# Altium integrated library Xilinx Virtex-4.IntLib: 84 symbols (part 24 of 50)
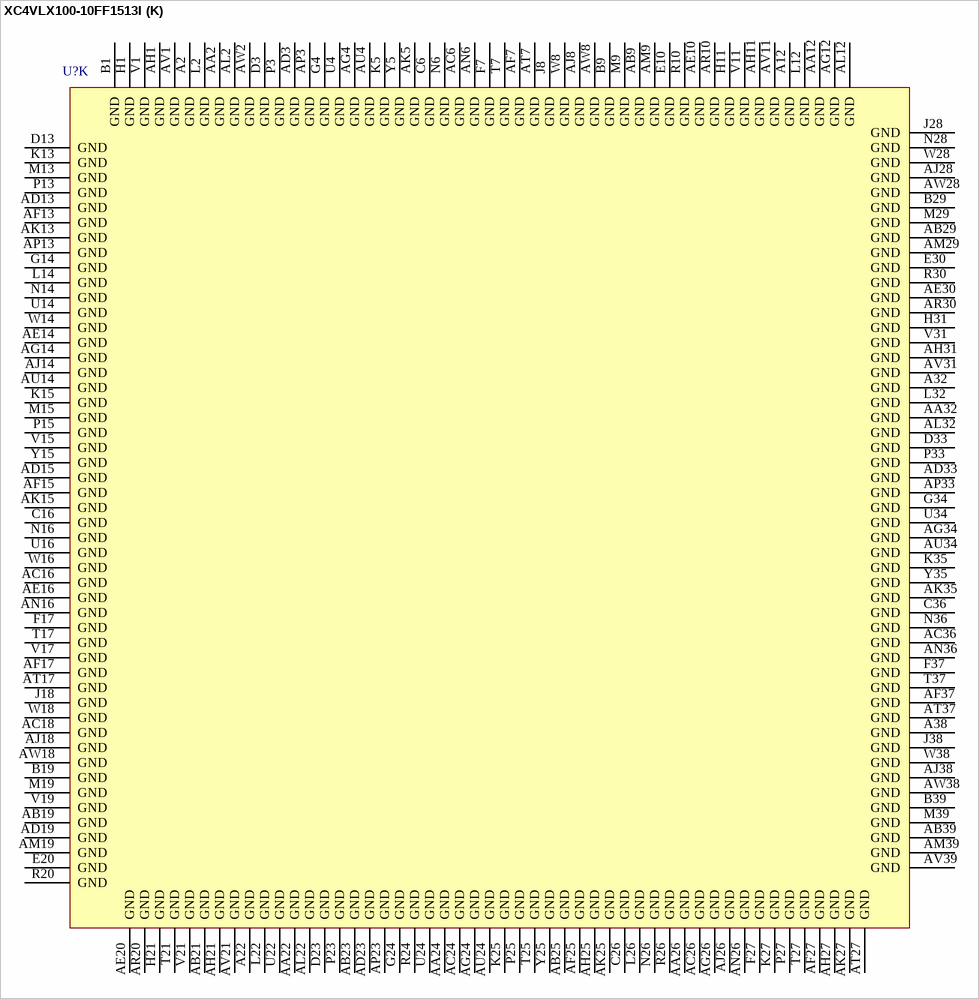
[diagram p422: symbol XC4VLX100-10FF1513I]

## XC4VLX100-10FF1513I
designator U?
Xilinx Virtex-4 LX Platform FPGA, 1513-Ball FFBGA, Speed Grade 10, 960 User I/Os, Industrial Grade; PackageDocument: ver1.0, Sep-2004; Published: 13-Dec-2004; DatasheetDocument: ver1.2, Dec-2004; PackageReference: FF1513; Publisher: Altium Limited; Code_JEDEC: MS-034-AAU-1 (Depopulated)
footprint FF1513 (1513-Ball Flip-Chip Fine-Pitch Ball Grid Array (FF1513))
3D model XC4VLX100-FF1513 (1513-Ball Flip-Chip Fine-Pitch Ball Grid Array (FF1513))
signal-integrity model XC4VLX100_FF1513 (Virtex-4)
part A pins: A16 IO_L8P_D17_CC_LC_1 (io), A17 VCCO_1 (power), A18 IO_L26P_LC_1 (io), A23 IO_L29N_LC_1 (io), A24 IO_L29P_LC_1 (io), A25 IO_L39N_LC_1 (io), AC20 IO_L35N_LC_2 (io), AC21 VCCO_2 (power), AC22 IO_L35P_LC_2 (io), AD17 IO_L20N_VREF_LC_2 (io), AD18 VCCO_2 (power), AD21 IO_L19N_LC_2 (io), AE18 IO_L20P_LC_2 (io), AE22 IO_L19P_LC_2 (io), AE23 IO_L33P_LC_2 (io), AF21 IO_L17N_LC_2 (io), AF22 VCCO_2 (power), AF23 IO_L33N_LC_2 (io), AG16 IO_L8N_D0_LC_2 (io), AG17 IO_L18N_LC_2 (io), AG22 IO_L17P_LC_2 (io), AG23 IO_L29P_LC_2 (io), AH15 IO_L8P_D1_LC_2 (io), AH16 VCCO_2 (power), AH17 IO_L18P_LC_2 (io), AH22 IO_L31P_LC_2 (io), AH23 IO_L29N_LC_2 (io), AJ16 IO_L40N_CC_LC_2 (io), AJ22 IO_L31N_LC_2 (io), AJ23 VCCO_2 (power), AJ24 IO_L7P_D3_LC_2 (io), AK16 IO_L40P_CC_LC_2 (io), AK17 IO_L32P_LC_2 (io), AK23 IO_L27P_LC_2 (io), AK24 IO_L7N_D2_LC_2 (io), AL16 IO_L32N_LC_2 (io), AL17 VCCO_2 (power), AL18 IO_L10N_GC_LC_2 (io), AL23 IO_L27N_LC_2 (io), AL24 IO_L5P_D7_LC_2 (io), AM17 IO_L30N_LC_2 (io), AM18 IO_L10P_GC_LC_2 (io), AM20 IO_L15N_GC_LC_2 (io), AM21 IO_L15P_GC_LC_2 (io), AM23 IO_L25P_CC_LC_2 (io), AM24 VCCO_2 (power), AM25 IO_L5N_D6_LC_2 (io), AN17 IO_L30P_LC_2 (io), AN18 IO_L24P_CC_LC_2 (io), AN20 IO_L13N_GC_LC_2 (io), AN21 VCCO_2 (power), AN22 IO_L25N_CC_LC_2 (io), AN24 IO_L1N_D14_CC_LC_2 (io), AN25 IO_L1P_D15_CC_LC_2 (io), AP14 IO_L6N_D4_LC_2 (io), AP15 IO_L6P_D5_LC_2 (io), AP16 IO_L38N_LC_2 (io), AP17 IO_L24N_CC_LC_2 (io), AP18 VCCO_2 (power), AP19 IO_L14P_GC_LC_2 (io), AP21 IO_L13P_GC_LC_2 (io), AP22 IO_L9P_GC_CC_LC_2 (io), AR14 IO_L2N_D12_LC_2 (io), AR15 VCCO_2 (power), AR16 IO_L38P_LC_2 (io), AR18 IO_L14N_GC_LC_2 (io), AR19 IO_L12N_GC_VREF_LC_2 (io), AR21 IO_L11N_GC_LC_2 (io), AR22 IO_L9N_GC_CC_LC_2 (io), AR23 IO_L39P_LC_2 (io), AT14 IO_L2P_D13_LC_2 (io), AT15 IO_L36N_VREF_LC_2 (io), AT16 IO_L36P_LC_2 (io), AT18 IO_L22N_LC_2 (io), AT19 IO_L12P_GC_LC_2 (io), AT20 IO_L16N_GC_LC_2 (io), AT21 IO_L11P_GC_LC_2 (io), AT22 VCCO_2 (power), AT23 IO_L39N_LC_2 (io), AU15 IO_L4N_D8_VREF_LC_2 (io), AU16 IO_L28N_VREF_LC_2 (io), AU17 IO_L28P_LC_2 (io), AU18 IO_L22P_LC_2 (io), AU19 VCCO_2 (power), AU20 IO_L16P_GC_LC_2 (io), AU21 IO_L23N_VRP_LC_2 (io), AU22 IO_L23P_VRN_LC_2 (io), AU23 IO_L37P_LC_2 (io), AV15 IO_L4P_D9_LC_2 (io), AV16 VCCO_2 (power), AV17 IO_L26N_LC_2 (io), AV22 IO_L21P_LC_2 (io), AV23 IO_L37N_LC_2 (io), AV24 IO_L3P_D11_LC_2 (io), AW15 IO_L34N_LC_2 (io), AW16 IO_L34P_LC_2 (io), AW17 IO_L26P_LC_2 (io), AW22 IO_L21N_LC_2 (io), AW23 VCCO_2 (power), AW24 IO_L3N_D10_LC_2 (io), B16 IO_L8N_D16_CC_LC_1 (io), B17 IO_L40P_LC_1 (io), B18 IO_L26N_LC_1 (io), B23 IO_L23N_LC_1 (io), B24 VCCO_1 (power), B25 IO_L39P_LC_1 (io), C17 IO_L40N_LC_1 (io), C18 IO_L12N_GC_VREF_LC_1 (io), C19 IO_L12P_GC_LC_1 (io), C20 IO_L9P_GC_LC_1 (io), C21 VCCO_1 (power), C22 IO_L13N_GC_LC_1 (io), C23 IO_L23P_LC_1 (io), C24 IO_L27N_LC_1 (io), C25 IO_L37N_LC_1 (io), D17 IO_L38P_LC_1 (io), D18 VCCO_1 (power), D19 IO_L10P_GC_LC_1 (io), D20 IO_L9N_GC_LC_1 (io), D21 IO_L11N_GC_LC_1 (io), D22 IO_L13P_GC_LC_1 (io), D24 IO_L27P_LC_1 (io), D25 IO_L37P_LC_1 (io), D26 IO_L3N_D26_LC_1 (io), E17 IO_L38N_LC_1 (io), E18 IO_L24P_LC_1 (io), E19 IO_L10N_GC_LC_1 (io), E21 IO_L11P_GC_LC_1 (io), E22 IO_L21N_LC_1 (io), E24 IO_L25N_LC_1 (io), E25 VCCO_1 (power), E26 IO_L3P_D27_LC_1 (io), F18 IO_L24N_LC_1 (io), F19 IO_L14N_GC_LC_1 (io), F21 IO_L17N_CC_LC_1 (io), F22 VCCO_1 (power), F23 IO_L21P_LC_1 (io), F24 IO_L25P_LC_1 (io), F25 IO_L1N_D30_LC_1 (io), F26 IO_L1P_D31_LC_1 (io), G15 IO_L6N_D20_LC_1 (io), G16 IO_L6P_D21_LC_1 (io), G18 IO_L22P_LC_1 (io), G19 VCCO_1 (power), G20 IO_L14P_GC_LC_1 (io), G22 IO_L17P_CC_LC_1 (io), G23 IO_L19N_LC_1 (io), H15 IO_L4N_D24_VREF_LC_1 (io), H16 VCCO_1 (power), H17 IO_L22N_LC_1 (io), H22 IO_L15N_GC_LC_1 (io), H23 IO_L19P_LC_1 (io), J16 IO_L4P_D25_LC_1 (io), J17 IO_L36P_LC_1 (io), J22 IO_L15P_GC_LC_1 (io), J23 VCCO_1 (power), J24 IO_L35N_LC_1 (io), K16 IO_L2P_D29_LC_1 (io), K17 IO_L36N_VREF_LC_1 (io), K23 IO_L33N_CC_LC_1 (io), K24 IO_L35P_LC_1 (io), L16 IO_L2N_D28_LC_1 (io), L17 VCCO_1 (power), L18 IO_L20P_LC_1 (io), L24 IO_L33P_CC_LC_1 (io), M17 IO_L34P_LC_1 (io), M18 IO_L20N_VREF_LC_1 (io), M23 IO_L31N_LC_1 (io), M24 VCCO_1 (power), M25 IO_L5P_D23_LC_1 (io), N17 IO_L34N_LC_1 (io), N18 IO_L18N_VRP_LC_1 (io), N23 IO_L31P_LC_1 (io), N24 IO_L5N_D22_LC_1 (io), P17 IO_L32P_CC_LC_1 (io), P18 VCCO_1 (power), P19 IO_L18P_VRN_LC_1 (io), R17 IO_L32N_CC_LC_1 (io), R18 IO_L30N_LC_1 (io), R22 IO_L7N_D18_LC_1 (io), T18 IO_L30P_LC_1 (io), T19 IO_L16N_GC_CC_LC_1 (io), T20 IO_L16P_GC_CC_LC_1 (io), T22 VCCO_1 (power), T23 IO_L7P_D19_LC_1 (io), U18 IO_L28N_VREF_LC_1 (io), U19 VCCO_1 (power), U20 IO_L28P_LC_1 (io)
part B pins: AF18 IO_L2N_GC_LC_4 (io), AF19 IO_L2P_GC_LC_4 (io), AF20 IO_L4N_GC_VREF_LC_4 (io), AG18 IO_L6N_GC_LC_4 (io), AG19 VCCO_4 (power), AG20 IO_L4P_GC_LC_4 (io), AH18 IO_L6P_GC_LC_4 (io), AH19 IO_L1N_GC_LC_4 (io), AH20 IO_L1P_GC_LC_4 (io), AJ19 IO_L8N_GC_CC_LC_4 (io), AJ20 IO_L3N_GC_LC_4 (io), AJ21 IO_L3P_GC_LC_4 (io), AK19 IO_L8P_GC_CC_LC_4 (io), AK20 VCCO_4 (power), AK21 IO_L7N_GC_VRP_LC_4 (io), AL19 IO_L5N_GC_LC_4 (io), AL20 IO_L5P_GC_LC_4 (io), AL21 IO_L7P_GC_VRN_LC_4 (io), J19 IO_L2P_GC_VRN_LC_3 (io), J20 IO_L4N_GC_VREF_LC_3 (io), J21 IO_L4P_GC_LC_3 (io), K19 IO_L2N_GC_VRP_LC_3 (io), K20 VCCO_3 (power), K21 IO_L8N_GC_LC_3 (io), L19 IO_L6N_GC_LC_3 (io), L20 IO_L6P_GC_LC_3 (io), L21 IO_L8P_GC_LC_3 (io), M20 IO_L5N_GC_LC_3 (io), M21 IO_L5P_GC_LC_3 (io), M22 IO_L3N_GC_LC_3 (io), N20 IO_L1N_GC_CC_LC_3 (io), N21 VCCO_3 (power), N22 IO_L3P_GC_LC_3 (io), P20 IO_L1P_GC_CC_LC_3 (io), P21 IO_L7N_GC_LC_3 (io), P22 IO_L7P_GC_LC_3 (io)
part C pins: A6 IO_L27P_6 (io), A7 VCCO_6 (power), A8 IO_L23N_VRP_6 (io), A9 IO_L23P_VRN_6 (io), A10 IO_L6N_6 (io), A11 IO_L6P_6 (io), A13 IO_L1N_6 (io), A14 IO_L1P_6 (io), A15 IO_L13N_6 (io), A26 IO_L1N_ADC7_5 (io), A27 VCCO_5 (power), A28 IO_L7P_ADC2_5 (io), A29 IO_L7N_ADC2_5 (io), A30 IO_L4P_5 (io), A31 IO_L4N_VREF_5 (io), A33 IO_L14P_5 (io), A34 IO_L14N_5 (io), A35 IO_L29P_5 (io), A36 IO_L29N_5 (io), A37 VCCO_5 (power), B6 IO_L27N_6 (io), B7 IO_L20P_6 (io), B8 IO_L16P_6 (io), B10 IO_L8P_CC_LC_6 (io), B11 IO_L15N_6 (io), B12 IO_L15P_6 (io), B13 IO_L3P_6 (io), B14 VCCO_6 (power), B15 IO_L13P_6 (io), B26 IO_L1P_ADC7_5 (io), B27 IO_L9N_CC_LC_5 (io), B28 IO_L13P_5 (io), B30 IO_L21P_5 (io), B31 IO_L21N_5 (io), B32 IO_L19P_5 (io), B33 IO_L19N_5 (io), B34 VCCO_5 (power), B35 IO_L24P_CC_LC_5 (io), B36 IO_L31P_5 (io), B37 IO_L31N_5 (io), C7 IO_L20N_VREF_6 (io), C8 IO_L16N_6 (io), C9 IO_L12P_6 (io), C10 IO_L8N_CC_LC_6 (io), C11 VCCO_6 (power), C12 IO_L19P_6 (io), C13 IO_L3N_6 (io), C14 IO_L5N_6 (io), C15 IO_L21N_6 (io), C27 IO_L9P_CC_LC_5 (io), C28 IO_L13N_5 (io), C29 IO_L15P_5 (io), C30 IO_L15N_5 (io), C31 VCCO_5 (power), C32 IO_L12P_5 (io), C33 IO_L22P_5 (io), C34 IO_L22N_5 (io), C35 IO_L24N_CC_LC_5 (io), D7 IO_L26P_6 (io), D8 VCCO_6 (power), D9 IO_L12N_VREF_6 (io), D10 IO_L4N_VREF_6 (io), D11 IO_L4P_6 (io), D12 IO_L19N_6 (io), D14 IO_L5P_6 (io), D15 IO_L21P_6 (io), D16 IO_L25N_CC_LC_6 (io), D27 IO_L3N_ADC5_5 (io), D28 VCCO_5 (power), D29 IO_L6P_ADC3_5 (io), D30 IO_L8P_CC_ADC1_LC_5 (io), D31 IO_L8N_CC_ADC1_LC_5 (io), D32 IO_L12N_VREF_5 (io), E7 IO_L26N_6 (io), E8 IO_L24P_CC_LC_6 (io), E9 IO_L18P_6 (io), E11 IO_L2N_6 (io), E12 IO_L2P_6 (io), E13 IO_L7P_6 (io), E14 IO_L9N_CC_LC_6 (io), E15 VCCO_6 (power), E16 IO_L25P_CC_LC_6 (io), E27 IO_L3P_ADC5_5 (io), E28 IO_L2P_ADC6_5 (io), E29 IO_L6N_ADC3_5 (io), E31 IO_L16P_5 (io), E32 IO_L16N_5 (io), E33 IO_L26P_5 (io), F8 IO_L24N_CC_LC_6 (io), F9 IO_L18N_6 (io), F11 IO_L14P_6 (io), F12 VCCO_6 (power), F13 IO_L7N_6 (io), F14 IO_L9P_CC_LC_6 (io), F15 IO_L29N_6 (io), F16 IO_L29P_6 (io), F28 IO_L2N_ADC6_5 (io), F29 IO_L10P_5 (io), F31 IO_L23P_VRN_5 (io), F32 VCCO_5 (power), F33 IO_L26N_5 (io), G8 IO_L30N_6 (io), G9 VCCO_6 (power), G10 IO_L22P_6 (io), G11 IO_L14N_6 (io), G12 IO_L11N_6 (io), G13 IO_L11P_6 (io), G25 IO_L5P_ADC4_5 (io), G26 IO_L5N_ADC4_5 (io), G28 IO_L10N_5 (io), G29 VCCO_5 (power), G30 IO_L18P_5 (io), G31 IO_L23N_VRP_5 (io), G32 IO_L28P_5 (io), G33 IO_L28N_VREF_5 (io), H9 IO_L30P_6 (io), H10 IO_L22N_6 (io), H12 IO_L10P_6 (io), H13 IO_L17N_6 (io), H25 IO_L17P_5 (io), H26 VCCO_5 (power), H27 IO_L11N_5 (io), H29 IO_L18N_5 (io), H30 IO_L27P_5 (io), J9 IO_L28N_VREF_6 (io), J10 IO_L28P_6 (io), J12 IO_L10N_6 (io), J13 VCCO_6 (power), J14 IO_L17P_6 (io), J26 IO_L17N_5 (io), J27 IO_L11P_5 (io), J29 IO_L20P_5 (io), J30 IO_L27N_5 (io), J31 IO_L30P_5 (io), K9 IO_L32N_6 (io), K10 VCCO_6 (power), K11 IO_L31P_6 (io), K29 IO_L20N_VREF_5 (io), K30 VCCO_5 (power), K31 IO_L30N_5 (io), L10 IO_L32P_6 (io), L11 IO_L31N_6 (io), L27 VCCO_5 (power), L28 IO_L25N_CC_LC_5 (io), L30 IO_L32P_5 (io), L31 IO_L32N_5 (io), M27 IO_L25P_CC_LC_5 (io)
part D pins: AH13 IO_L14P_8 (io), AJ9 IO_L2N_8 (io), AJ10 IO_L2P_8 (io), AJ12 IO_L14N_8 (io), AJ13 VCCO_8 (power), AJ29 IO_L8N_CC_LC_7 (io), AJ30 IO_L2P_7 (io), AK9 IO_L4N_VREF_8 (io), AK10 VCCO_8 (power), AK11 IO_L9N_CC_LC_8 (io), AK29 IO_L8P_CC_LC_7 (io), AK30 VCCO_7 (power), AK31 IO_L2N_7 (io), AL9 IO_L4P_8 (io), AL10 IO_L12N_VREF_8 (io), AL11 IO_L9P_CC_LC_8 (io), AL13 IO_L17N_8 (io), AL14 IO_L17P_8 (io), AL26 IO_L17P_7 (io), AL27 VCCO_7 (power), AL28 IO_L24P_CC_LC_7 (io), AL30 IO_L3N_7 (io), AL31 IO_L4N_VREF_7 (io), AM10 IO_L12P_8 (io), AM11 IO_L13P_8 (io), AM13 IO_L27N_8 (io), AM14 VCCO_8 (power), AM15 IO_L5P_8 (io), AM27 IO_L17N_7 (io), AM28 IO_L24N_CC_LC_7 (io), AM30 IO_L3P_7 (io), AM31 IO_L4P_7 (io), AN7 IO_L6N_8 (io), AN8 IO_L3N_8 (io), AN9 IO_L3P_8 (io), AN10 IO_L13N_8 (io), AN11 VCCO_8 (power), AN12 IO_L15P_8 (io), AN14 IO_L27P_8 (io), AN15 IO_L5N_8 (io), AN27 IO_L23P_VRN_7 (io), AN28 IO_L23N_VRP_7 (io), AN29 IO_L22N_7 (io), AN30 IO_L7P_7 (io), AN31 VCCO_7 (power), AN32 IO_L6N_7 (io), AP7 IO_L6P_8 (io), AP8 VCCO_8 (power), AP9 IO_L20N_VREF_8 (io), AP11 IO_L15N_8 (io), AP12 IO_L19N_8 (io), AP24 IO_L5P_7 (io), AP25 IO_L13P_7 (io), AP26 IO_L13N_7 (io), AP27 IO_L25P_CC_SM7_LC_7 (io), AP28 VCCO_7 (power), AP29 IO_L22P_7 (io), AP31 IO_L7N_7 (io), AP32 IO_L6P_7 (io), AR7 IO_L7N_8 (io), AR8 IO_L7P_8 (io), AR9 IO_L20P_8 (io), AR11 IO_L28N_VREF_8 (io), AR12 IO_L19P_8 (io), AR13 IO_L29N_8 (io), AR24 IO_L5N_7 (io), AR25 VCCO_7 (power), AR26 IO_L27P_SM5_7 (io), AR27 IO_L25N_CC_SM7_LC_7 (io), AR28 IO_L32N_SM1_7 (io), AR29 IO_L30N_SM3_7 (io), AR31 IO_L16P_7 (io), AR32 IO_L16N_7 (io), AR33 IO_L1N_7 (io), AT8 IO_L18N_8 (io), AT9 IO_L22N_8 (io), AT10 IO_L22P_8 (io), AT11 IO_L28P_8 (io), AT12 VCCO_8 (power), AT13 IO_L29P_8 (io), AT24 IO_L9P_CC_LC_7 (io), AT25 IO_L9N_CC_LC_7 (io), AT26 IO_L27N_SM5_7 (io), AT28 IO_L32P_SM1_7 (io), AT29 IO_L30P_SM3_7 (io), AT30 IO_L14N_7 (io), AT31 IO_L14P_7 (io), AT32 VCCO_7 (power), AT33 IO_L1P_7 (io), AU5 IO_L1N_8 (io), AU6 IO_L16N_8 (io), AU7 IO_L16P_8 (io), AU8 IO_L18P_8 (io), AU9 VCCO_8 (power), AU10 IO_L30N_8 (io), AU11 IO_L23N_VRP_8 (io), AU12 IO_L23P_VRN_8 (io), AU13 IO_L21N_8 (io), AU25 IO_L15P_7 (io), AU26 IO_L31P_SM2_7 (io), AU27 IO_L31N_SM2_7 (io), AU28 IO_L19N_7 (io), AU29 VCCO_7 (power), AU30 IO_L26N_SM6_7 (io), AU31 IO_L18P_7 (io), AU32 IO_L18N_7 (io), AU33 IO_L12N_VREF_7 (io), AV3 IO_L8N_CC_LC_8 (io), AV4 IO_L8P_CC_LC_8 (io), AV5 IO_L1P_8 (io), AV6 VCCO_8 (power), AV7 IO_L24N_CC_LC_8 (io), AV8 IO_L24P_CC_LC_8 (io), AV9 IO_L26N_8 (io), AV10 IO_L30P_8 (io), AV12 IO_L25N_CC_LC_8 (io), AV13 IO_L21P_8 (io), AV14 IO_L31N_8 (io), AV25 IO_L15N_7 (io), AV26 VCCO_7 (power), AV27 IO_L29P_SM4_7 (io), AV28 IO_L19P_7 (io), AV29 IO_L28N_VREF_7 (io), AV30 IO_L26P_SM6_7 (io), AV32 IO_L20N_VREF_7 (io), AV33 IO_L12P_7 (io), AV34 IO_L10N_7 (io), AW3 VCCO_8 (power), AW4 IO_L10N_8 (io), AW5 IO_L10P_8 (io), AW6 IO_L11N_8 (io), AW7 IO_L11P_8 (io), AW9 IO_L26P_8 (io), AW10 IO_L32N_8 (io), AW11 IO_L32P_8 (io), AW12 IO_L25P_CC_LC_8 (io), AW13 VCCO_8 (power), AW14 IO_L31P_8 (io), AW25 IO_L21P_7 (io), AW26 IO_L21N_7 (io), AW27 IO_L29N_SM4_7 (io), AW29 IO_L28P_7 (io), AW30 IO_L11P_7 (io), AW31 IO_L11N_7 (io), AW32 IO_L20P_7 (io), AW33 VCCO_7 (power), AW34 IO_L10P_7 (io)
part E pins: A3 IO_L2P_10 (io), A4 IO_L1N_10 (io), A5 IO_L1P_10 (io), B3 IO_L2N_10 (io), B4 VCCO_10 (power), B5 IO_L3P_10 (io), C1 VCCO_10 (power), C2 IO_L6N_10 (io), C3 IO_L6P_10 (io), C4 IO_L4P_10 (io), C5 IO_L3N_10 (io), C37 IO_L2P_9 (io), C38 IO_L2N_9 (io), C39 IO_L8P_CC_LC_9 (io), D1 IO_L16N_10 (io), D2 IO_L16P_10 (io), D4 IO_L4N_VREF_10 (io), D5 IO_L5N_10 (io), D6 IO_L5P_10 (io), D34 IO_L1P_9 (io), D35 IO_L1N_9 (io), D36 IO_L5P_9 (io), D37 IO_L5N_9 (io), D38 VCCO_9 (power), D39 IO_L8N_CC_LC_9 (io), E1 IO_L18N_10 (io), E2 IO_L18P_10 (io), E3 IO_L15N_10 (io), E4 IO_L15P_10 (io), E5 VCCO_10 (power), E6 IO_L7P_10 (io), E34 IO_L3P_9 (io), E35 VCCO_9 (power), E36 IO_L7P_9 (io), E37 IO_L11P_9 (io), E38 IO_L11N_9 (io), E39 IO_L14P_9 (io), F1 IO_L24P_CC_LC_10 (io), F2 VCCO_10 (power), F3 IO_L12N_VREF_10 (io), F4 IO_L12P_10 (io), F5 IO_L10P_10 (io), F6 IO_L7N_10 (io), F34 IO_L3N_9 (io), F35 IO_L4P_9 (io), F36 IO_L7N_9 (io), F38 IO_L16P_9 (io), F39 IO_L14N_9 (io), G1 IO_L24N_CC_LC_10 (io), G2 IO_L22N_10 (io), G3 IO_L22P_10 (io), G5 IO_L10N_10 (io), G6 IO_L9N_CC_LC_10 (io), G7 IO_L9P_CC_LC_10 (io), G35 IO_L4N_VREF_9 (io), G36 IO_L10P_9 (io), G37 IO_L10N_9 (io), G38 IO_L16N_9 (io), G39 VCCO_9 (power), H5 IO_L21P_10 (io), H6 VCCO_10 (power), H7 IO_L8P_CC_LC_10 (io), H33 IO_L6P_9 (io), H34 IO_L6N_9 (io), H35 IO_L12P_9 (io), H36 VCCO_9 (power), H37 IO_L18P_9 (io), H38 IO_L18N_9 (io), H39 IO_L23P_VRN_9 (io), J5 IO_L21N_10 (io), J6 IO_L23P_VRN_10 (io), J7 IO_L8N_CC_LC_10 (io), J32 IO_L9P_CC_LC_9 (io), J33 VCCO_9 (power), J34 IO_L15P_9 (io), J35 IO_L12N_VREF_9 (io), J36 IO_L21P_9 (io), J37 IO_L21N_9 (io), J39 IO_L23N_VRP_9 (io), K6 IO_L23N_VRP_10 (io), K7 IO_L20P_10 (io), K32 IO_L9N_CC_LC_9 (io), K33 IO_L17P_9 (io), K34 IO_L15N_9 (io), K36 IO_L22P_9 (io), K37 IO_L27P_9 (io), K38 IO_L27N_9 (io), K39 IO_L30P_9 (io), L6 IO_L29P_10 (io), L7 VCCO_10 (power), L8 IO_L20N_VREF_10 (io), L33 IO_L17N_9 (io), L34 IO_L20P_9 (io), L35 IO_L20N_VREF_9 (io), L36 IO_L22N_9 (io), L37 VCCO_9 (power), L38 IO_L31P_9 (io), L39 IO_L30N_9 (io), M6 IO_L29N_10 (io), M7 IO_L27N_10 (io), M8 IO_L27P_10 (io), M10 IO_L14P_10 (io), M11 IO_L11P_10 (io), M30 IO_L13P_9 (io), M31 IO_L13N_9 (io), M33 IO_L24P_CC_LC_9 (io), M34 VCCO_9 (power), M35 IO_L26P_9 (io), M36 IO_L32P_9 (io), M37 IO_L32N_9 (io), M38 IO_L31N_9 (io), N7 IO_L30P_10 (io), N8 IO_L28N_VREF_10 (io), N10 IO_L14N_10 (io), N11 VCCO_10 (power), N12 IO_L11N_10 (io), N30 IO_L19P_9 (io), N31 VCCO_9 (power), N32 IO_L24N_CC_LC_9 (io), N33 IO_L28P_9 (io), N34 IO_L28N_VREF_9 (io), N35 IO_L26N_9 (io), P7 IO_L30N_10 (io), P8 VCCO_10 (power), P9 IO_L28P_10 (io), P11 IO_L25P_CC_LC_10 (io), P12 IO_L19P_10 (io), P28 VCCO_9 (power), P29 IO_L19N_9 (io), P31 IO_L29P_9 (io), P32 IO_L29N_9 (io), R8 IO_L31N_10 (io), R9 IO_L31P_10 (io), R11 IO_L25N_CC_LC_10 (io), R12 IO_L19N_10 (io), R14 IO_L17P_10 (io), R15 VCCO_10 (power), R16 IO_L13P_10 (io), R28 IO_L25P_CC_LC_9 (io), R29 IO_L25N_CC_LC_9 (io), T11 IO_L32N_10 (io), T12 VCCO_10 (power), T13 IO_L26P_10 (io), T14 IO_L17N_10 (io), T15 IO_L13N_10 (io), U12 IO_L32P_10 (io), U13 IO_L26N_10 (io)
part F pins: AC27 IO_L3N_11 (io), AC28 IO_L2P_11 (io), AD25 IO_L9P_CC_LC_11 (io), AD26 IO_L5P_11 (io), AD27 IO_L3P_11 (io), AD28 VCCO_11 (power), AD29 IO_L2N_11 (io), AE11 IO_L12N_VREF_12 (io), AE12 IO_L12P_12 (io), AE24 IO_L9N_CC_LC_11 (io), AE25 VCCO_11 (power), AE26 IO_L5N_11 (io), AE28 IO_L10P_11 (io), AE29 IO_L10N_11 (io), AE31 IO_L4P_11 (io), AE32 IO_L4N_VREF_11 (io), AF8 IO_L6N_12 (io), AF9 IO_L6P_12 (io), AF11 IO_L11P_12 (io), AF12 VCCO_12 (power), AF28 IO_L13P_11 (io), AF29 IO_L13N_11 (io), AF31 IO_L6P_11 (io), AF32 VCCO_11 (power), AF33 IO_L1N_11 (io), AG5 IO_L1N_12 (io), AG6 IO_L3N_12 (io), AG7 IO_L3P_12 (io), AG8 IO_L7P_12 (io), AG9 VCCO_12 (power), AG10 IO_L11N_12 (io), AG28 IO_L21P_11 (io), AG29 VCCO_11 (power), AG30 IO_L15N_11 (io), AG32 IO_L6N_11 (io), AG33 IO_L1P_11 (io), AH2 IO_L2N_12 (io), AH3 IO_L2P_12 (io), AH4 IO_L8N_CC_LC_12 (io), AH5 IO_L1P_12 (io), AH6 VCCO_12 (power), AH7 IO_L7N_12 (io), AH9 IO_L19N_12 (io), AH10 IO_L19P_12 (io), AH29 IO_L21N_11 (io), AH30 IO_L15P_11 (io), AH32 IO_L7P_11 (io), AH33 IO_L7N_11 (io), AH34 IO_L8N_CC_LC_11 (io), AJ1 IO_L4N_VREF_12 (io), AJ2 IO_L4P_12 (io), AJ3 VCCO_12 (power), AJ4 IO_L8P_CC_LC_12 (io), AJ5 IO_L9N_CC_LC_12 (io), AJ6 IO_L9P_CC_LC_12 (io), AJ7 IO_L20N_VREF_12 (io), AJ32 IO_L16N_11 (io), AJ33 VCCO_11 (power), AJ34 IO_L8P_CC_LC_11 (io), AK1 IO_L5N_12 (io), AK2 IO_L10N_12 (io), AK3 IO_L10P_12 (io), AK4 IO_L16N_12 (io), AK6 IO_L17N_12 (io), AK7 IO_L20P_12 (io), AK8 IO_L23N_VRP_12 (io), AK33 IO_L16P_11 (io), AK34 IO_L11N_11 (io), AL1 IO_L5P_12 (io), AL3 IO_L13N_12 (io), AL4 IO_L16P_12 (io), AL5 IO_L22N_12 (io), AL6 IO_L17P_12 (io), AL7 VCCO_12 (power), AL8 IO_L23P_VRN_12 (io), AL33 IO_L26N_11 (io), AL34 IO_L11P_11 (io), AL35 IO_L18N_11 (io), AM1 IO_L14N_12 (io), AM2 IO_L14P_12 (io), AM3 IO_L13P_12 (io), AM4 VCCO_12 (power), AM5 IO_L22P_12 (io), AM6 IO_L28N_VREF_12 (io), AM7 IO_L28P_12 (io), AM33 IO_L26P_11 (io), AM34 VCCO_11 (power), AM35 IO_L18P_11 (io), AN1 VCCO_12 (power), AN2 IO_L18N_12 (io), AN3 IO_L18P_12 (io), AN4 IO_L21N_12 (io), AN5 IO_L21P_12 (io), AN33 IO_L23P_VRN_11 (io), AN34 IO_L23N_VRP_11 (io), AN35 IO_L19N_11 (io), AN37 IO_L14P_11 (io), AN38 IO_L14N_11 (io), AN39 IO_L12N_VREF_11 (io), AP1 IO_L15N_12 (io), AP2 IO_L15P_12 (io), AP4 IO_L30N_12 (io), AP5 IO_L30P_12 (io), AP6 IO_L29N_12 (io), AP34 IO_L32N_11 (io), AP35 IO_L19P_11 (io), AP36 IO_L22P_11 (io), AP37 IO_L22N_11 (io), AP38 VCCO_11 (power), AP39 IO_L12P_11 (io), AR1 IO_L24N_CC_LC_12 (io), AR2 IO_L26N_12 (io), AR3 IO_L26P_12 (io), AR4 IO_L27N_12 (io), AR5 VCCO_12 (power), AR6 IO_L29P_12 (io), AR34 IO_L32P_11 (io), AR35 VCCO_11 (power), AR36 IO_L28N_VREF_11 (io), AR37 IO_L17P_11 (io), AR38 IO_L17N_11 (io), AR39 IO_L20N_VREF_11 (io), AT1 IO_L24P_CC_LC_12 (io), AT2 VCCO_12 (power), AT3 IO_L32N_12 (io), AT4 IO_L27P_12 (io), AT5 IO_L31N_12 (io), AT6 IO_L31P_12 (io), AT34 IO_L27P_11 (io), AT35 IO_L27N_11 (io), AT36 IO_L28P_11 (io), AT38 IO_L24N_CC_LC_11 (io), AT39 IO_L20P_11 (io), AU1 IO_L25N_CC_LC_12 (io), AU2 IO_L25P_CC_LC_12 (io), AU3 IO_L32P_12 (io), AU35 IO_L25P_CC_LC_11 (io), AU36 IO_L25N_CC_LC_11 (io), AU37 IO_L30N_11 (io), AU38 IO_L24P_CC_LC_11 (io), AU39 VCCO_11 (power), AV35 IO_L31N_11 (io), AV36 VCCO_11 (power), AV37 IO_L30P_11 (io), AW35 IO_L31P_11 (io), AW36 IO_L29P_11 (io), AW37 IO_L29N_11 (io)
part G pins: AA10 IO_L30P_14 (io), AA11 IO_L31P_14 (io), AA36 IO_L29P_13 (io), AA37 VCCO_13 (power), AA38 IO_L32N_13 (io), AA39 IO_L28N_VREF_13 (io), AB36 IO_L31P_13 (io), AB37 IO_L31N_13 (io), AB38 IO_L32P_13 (io), H2 IO_L3N_14 (io), H3 IO_L3P_14 (io), H4 IO_L1P_14 (io), J1 IO_L4N_VREF_14 (io), J2 IO_L4P_14 (io), J3 VCCO_14 (power), J4 IO_L1N_14 (io), K1 IO_L6N_14 (io), K2 IO_L6P_14 (io), K3 IO_L2N_14 (io), K4 IO_L2P_14 (io), L1 IO_L10P_14 (io), L3 IO_L7N_14 (io), L4 IO_L7P_14 (io), L5 IO_L5P_14 (io), M1 IO_L10N_14 (io), M2 IO_L8N_CC_LC_14 (io), M3 IO_L8P_CC_LC_14 (io), M4 VCCO_14 (power), M5 IO_L5N_14 (io), N1 VCCO_14 (power), N2 IO_L13N_14 (io), N3 IO_L13P_14 (io), N4 IO_L9N_CC_LC_14 (io), N5 IO_L9P_CC_LC_14 (io), N37 IO_L5P_13 (io), N38 IO_L5N_13 (io), N39 IO_L6P_13 (io), P1 IO_L16N_14 (io), P2 IO_L16P_14 (io), P4 IO_L12N_VREF_14 (io), P5 IO_L12P_14 (io), P6 IO_L11P_14 (io), P34 IO_L2P_13 (io), P35 IO_L2N_13 (io), P36 IO_L4P_13 (io), P37 IO_L4N_VREF_13 (io), P38 VCCO_13 (power), P39 IO_L6N_13 (io), R1 IO_L20N_VREF_14 (io), R2 IO_L20P_14 (io), R3 IO_L18N_14 (io), R4 IO_L18P_14 (io), R5 VCCO_14 (power), R6 IO_L11N_14 (io), R31 IO_L1P_13 (io), R32 IO_L1N_13 (io), R34 IO_L7P_13 (io), R35 VCCO_13 (power), R36 IO_L9P_CC_LC_13 (io), R37 IO_L11P_13 (io), R38 IO_L11N_13 (io), R39 IO_L12P_13 (io), T1 IO_L25P_CC_LC_14 (io), T2 VCCO_14 (power), T3 IO_L21N_14 (io), T4 IO_L21P_14 (io), T5 IO_L19N_14 (io), T6 IO_L19P_14 (io), T8 IO_L15P_14 (io), T9 IO_L17N_14 (io), T29 IO_L3P_13 (io), T31 IO_L8P_CC_LC_13 (io), T32 VCCO_13 (power), T33 IO_L10P_13 (io), T34 IO_L7N_13 (io), T35 IO_L15P_13 (io), T36 IO_L9N_CC_LC_13 (io), T38 IO_L17P_13 (io), T39 IO_L12N_VREF_13 (io), U1 IO_L25N_CC_LC_14 (io), U2 IO_L26N_14 (io), U3 IO_L26P_14 (io), U5 IO_L24P_CC_LC_14 (io), U6 IO_L22N_14 (io), U7 IO_L22P_14 (io), U8 IO_L15N_14 (io), U9 VCCO_14 (power), U10 IO_L17P_14 (io), U26 IO_L13N_13 (io), U27 IO_L14N_13 (io), U28 IO_L3N_13 (io), U29 VCCO_13 (power), U30 IO_L8N_CC_LC_13 (io), U32 IO_L10N_13 (io), U33 IO_L16P_13 (io), U35 IO_L15N_13 (io), U36 IO_L19P_13 (io), U37 IO_L19N_13 (io), U38 IO_L17N_13 (io), U39 VCCO_13 (power), V5 IO_L24N_CC_LC_14 (io), V6 VCCO_14 (power), V7 IO_L27P_14 (io), V9 IO_L23N_VRP_14 (io), V10 IO_L23P_VRN_14 (io), V12 IO_L14N_14 (io), V13 IO_L14P_14 (io), V25 IO_L13P_13 (io), V26 VCCO_13 (power), V27 IO_L14P_13 (io), V29 IO_L18P_13 (io), V30 IO_L18N_13 (io), V32 IO_L20P_13 (io), V33 IO_L16N_13 (io), V34 IO_L22P_13 (io), V35 IO_L22N_13 (io), V36 VCCO_13 (power), V37 IO_L23P_VRN_13 (io), V38 IO_L23N_VRP_13 (io), V39 IO_L24P_CC_LC_13 (io), W5 IO_L29N_14 (io), W6 IO_L29P_14 (io), W7 IO_L27N_14 (io), W9 IO_L28N_VREF_14 (io), W10 IO_L28P_14 (io), W12 IO_L32N_14 (io), W13 VCCO_14 (power), W26 IO_L21P_13 (io), W27 IO_L21N_13 (io), W32 IO_L20N_VREF_13 (io), W33 VCCO_13 (power), W34 IO_L25P_CC_LC_13 (io), W35 IO_L25N_CC_LC_13 (io), W36 IO_L26P_13 (io), W37 IO_L26N_13 (io), W39 IO_L24N_CC_LC_13 (io), Y9 IO_L30N_14 (io), Y10 VCCO_14 (power), Y11 IO_L31N_14 (io), Y13 IO_L32P_14 (io), Y33 IO_L30P_13 (io), Y34 IO_L30N_13 (io), Y36 IO_L29N_13 (io), Y37 IO_L27P_13 (io), Y38 IO_L27N_13 (io), Y39 IO_L28P_13 (io)
part H pins: AA1 IO_L8N_CC_LC_16 (io), AA3 IO_L7P_16 (io), AA4 IO_L5N_16 (io), AA5 IO_L10N_16 (io), AA6 IO_L10P_16 (io), AA7 VCCO_16 (power), AA8 IO_L14N_16 (io), AA13 IO_L9N_CC_LC_16 (io), AA14 IO_L9P_CC_LC_16 (io), AA27 VCCO_15 (power), AA28 IO_L1N_15 (io), AA30 IO_L4N_VREF_15 (io), AA31 IO_L6P_15 (io), AA33 IO_L8N_CC_LC_15 (io), AA34 IO_L3P_15 (io), AA35 IO_L3N_15 (io), AB1 IO_L12N_VREF_16 (io), AB2 IO_L12P_16 (io), AB3 IO_L7N_16 (io), AB4 VCCO_16 (power), AB5 IO_L11N_16 (io), AB6 IO_L11P_16 (io), AB7 IO_L14P_16 (io), AB8 IO_L17N_16 (io), AB10 IO_L15N_16 (io), AB11 IO_L15P_16 (io), AB13 IO_L20P_16 (io), AB14 VCCO_16 (power), AB15 IO_L21P_16 (io), AB27 IO_L17P_15 (io), AB28 IO_L17N_15 (io), AB30 IO_L15N_15 (io), AB31 IO_L11N_15 (io), AB33 IO_L8P_CC_LC_15 (io), AB34 VCCO_15 (power), AB35 IO_L7N_15 (io), AC1 VCCO_16 (power), AC2 IO_L13N_16 (io), AC3 IO_L13P_16 (io), AC4 IO_L16N_16 (io), AC5 IO_L16P_16 (io), AC7 IO_L23N_VRP_16 (io), AC8 IO_L17P_16 (io), AC10 IO_L22P_16 (io), AC11 VCCO_16 (power), AC12 IO_L25P_CC_LC_16 (io), AC13 IO_L20N_VREF_16 (io), AC14 IO_L21N_16 (io), AC30 IO_L15P_15 (io), AC31 VCCO_15 (power), AC32 IO_L11P_15 (io), AC33 IO_L9P_CC_LC_15 (io), AC34 IO_L9N_CC_LC_15 (io), AC35 IO_L7P_15 (io), AC37 IO_L10N_15 (io), AC38 IO_L5P_15 (io), AC39 IO_L5N_15 (io), AD1 IO_L18N_16 (io), AD2 IO_L18P_16 (io), AD4 IO_L19N_16 (io), AD5 IO_L19P_16 (io), AD6 IO_L28N_VREF_16 (io), AD7 IO_L23P_VRN_16 (io), AD8 VCCO_16 (power), AD9 IO_L22N_16 (io), AD11 IO_L25N_CC_LC_16 (io), AD31 IO_L19P_15 (io), AD32 IO_L19N_15 (io), AD34 IO_L18N_15 (io), AD35 IO_L14P_15 (io), AD36 IO_L14N_15 (io), AD37 IO_L10P_15 (io), AD38 VCCO_15 (power), AD39 IO_L12N_VREF_15 (io), AE1 IO_L26N_16 (io), AE2 IO_L24N_CC_LC_16 (io), AE3 IO_L24P_CC_LC_16 (io), AE4 IO_L27N_16 (io), AE5 VCCO_16 (power), AE6 IO_L28P_16 (io), AE8 IO_L31N_16 (io), AE9 IO_L31P_16 (io), AE34 IO_L18P_15 (io), AE35 VCCO_15 (power), AE36 IO_L20N_VREF_15 (io), AE37 IO_L16P_15 (io), AE38 IO_L16N_15 (io), AE39 IO_L12P_15 (io), AF1 IO_L26P_16 (io), AF2 VCCO_16 (power), AF3 IO_L32N_16 (io), AF4 IO_L27P_16 (io), AF5 IO_L29N_16 (io), AF6 IO_L29P_16 (io), AF34 IO_L24P_CC_LC_15 (io), AF35 IO_L24N_CC_LC_15 (io), AF36 IO_L20P_15 (io), AF38 IO_L13P_15 (io), AF39 IO_L13N_15 (io), AG1 IO_L30N_16 (io), AG2 IO_L30P_16 (io), AG3 IO_L32P_16 (io), AG35 IO_L26P_15 (io), AG36 IO_L26N_15 (io), AG37 IO_L22P_15 (io), AG38 IO_L22N_15 (io), AG39 VCCO_15 (power), AH35 IO_L27N_15 (io), AH36 VCCO_15 (power), AH37 IO_L23P_VRN_15 (io), AH38 IO_L23N_VRP_15 (io), AH39 IO_L21N_15 (io), AJ35 IO_L27P_15 (io), AJ36 IO_L25P_CC_LC_15 (io), AJ37 IO_L25N_CC_LC_15 (io), AJ39 IO_L21P_15 (io), AK36 IO_L32P_15 (io), AK37 IO_L32N_15 (io), AK38 IO_L28P_15 (io), AK39 IO_L28N_VREF_15 (io), AL36 IO_L31N_15 (io), AL37 VCCO_15 (power), AL38 IO_L30P_15 (io), AL39 IO_L30N_15 (io), AM36 IO_L31P_15 (io), AM37 IO_L29P_15 (io), AM38 IO_L29N_15 (io), V2 IO_L2N_16 (io), V3 IO_L2P_16 (io), V4 IO_L1P_16 (io), W1 IO_L3N_16 (io), W2 IO_L3P_16 (io), W3 VCCO_16 (power), W4 IO_L1N_16 (io), W29 IO_L2P_15 (io), W30 IO_L2N_15 (io), Y1 IO_L8P_CC_LC_16 (io), Y2 IO_L6N_16 (io), Y3 IO_L6P_16 (io), Y4 IO_L5P_16 (io), Y6 IO_L4N_VREF_16 (io), Y7 IO_L4P_16 (io), Y27 IO_L1P_15 (io), Y29 IO_L4P_15 (io), Y30 VCCO_15 (power), Y31 IO_L6N_15 (io)
part I pins: AA16 TMS_0 (in), AA17 VCCO_0 (power), AA18 TCK_0 (in), AA20 DOUT_BUSY_0 (io), AB16 TDO_0 (out), AB17 TDI_0 (in), H19 TDN_0, H20 TDP_0, V23 HSWAPEN_0 (in), V24 INIT_0 (io), W20 CCLK_0 (io), W22 PROGRAM_B_0 (in), W23 VCCO_0 (power), W24 VBATT_0 (power), Y16 D_IN_0 (io), Y17 CS_B_0 (io), Y18 RDWR_B_0 (in), Y19 DONE_0 (io), Y20 VCCO_0 (power), Y21 PWRDWN_B_0 (in), Y22 M2_0 (in), Y23 M0_0 (in), Y24 M1_0 (in)
part J pins: A19 AVSS_ADC (in), A20 VN_ADC (in), A21 VP_ADC (in), AA9 VCCINT (power), AA15 VCCINT (power), AA19 VCCAUX (power), AA21 VCCINT (power), AA23 VCCINT (power), AA25 VCCINT (power), AA29 VCCINT (power), AB12 VCCINT (power), AB18 VCCINT (power), AB20 VCCINT (power), AB22 VCCINT (power), AB24 VCCINT (power), AB26 VCCINT (power), AB32 VCCINT (power), AC9 VCCAUX (power), AC15 VCCINT (power), AC17 VCCINT (power), AC19 VCCINT (power), AC23 VCCINT (power), AC25 VCCINT (power), AC29 VCCAUX (power), AD10 VCCINT (power), AD12 VCCINT (power), AD14 VCCINT (power), AD16 VCCINT (power), AD20 VCCINT (power), AD22 VCCINT (power), AD24 VCCINT (power), AD30 VCCINT (power), AE7 VCCINT (power), AE13 VCCINT (power), AE15 VCCINT (power), AE17 VCCINT (power), AE19 VCCINT (power), AE21 VCCINT (power), AE27 VCCINT (power), AE33 VCCINT (power), AF10 VCCAUX (power), AF14 VCCINT (power), AF16 VCCINT (power), AF24 VCCINT (power), AF26 VCCINT (power), AF30 VCCAUX (power), AG11 VCCINT (power), AG13 VCCINT (power), AG15 VCCINT (power), AG21 VCCINT (power), AG25 VCCINT (power), AG27 VCCINT (power), AG31 VCCINT (power), AH8 VCCINT (power), AH12 VCCINT (power), AH14 VCCINT (power), AH24 VCCINT (power), AH26 VCCINT (power), AH28 VCCINT (power), AJ11 VCCAUX (power), AJ15 VCCINT (power), AJ17 VCCINT (power), AJ25 VCCINT (power), AJ27 VCCINT (power), AJ31 VCCAUX (power), AK12 VCCINT (power), AK14 VCCINT (power), AK18 VCCAUX (power), AK22 VCCINT (power), AK26 VCCINT (power), AK28 VCCAUX (power), AK32 VCCINT (power), AL15 VCCAUX (power), AL25 VCCAUX (power), AL29 VCCINT (power), AM8 VCCINT (power), AM12 VCCAUX (power), AM16 VCCINT (power), AM22 VCCAUX (power), AM26 VCCINT (power), AM32 VCCAUX (power), AN13 VCCINT (power), AN19 VCCAUX (power), AN23 VCCINT (power), AP10 VCCINT (power), AP20 VCCINT (power), AP30 VCCINT (power), AR17 VCCINT (power), AV18 AVSS_SM (in), AV19 VREFN_SM (in), AV20 VREFP_SM (in), AW19 VN_SM (in), AW20 VP_SM (in), AW21 AVDD_SM (in), B20 VREFN_ADC (in), B21 VREFP_ADC (in), B22 AVDD_ADC (in), E23 VCCINT (power), F10 VCCINT (power), F20 VCCINT (power), F30 VCCINT (power), G17 VCCINT (power), G21 VCCAUX (power), G27 VCCINT (power), H8 VCCAUX (power), H14 VCCINT (power), H18 VCCAUX (power), H24 VCCINT (power), H28 VCCAUX (power), H32 VCCINT (power), J11 VCCINT (power), J15 VCCAUX (power), J25 VCCAUX (power), K8 VCCINT (power), K12 VCCAUX (power), K14 VCCINT (power), K18 VCCINT (power), K22 VCCAUX (power), K26 VCCINT (power), K28 VCCINT (power), L9 VCCAUX (power), L13 VCCINT (power), L15 VCCINT (power), L23 VCCINT (power), L25 VCCINT (power), L29 VCCAUX (power), M12 VCCINT (power), M14 VCCINT (power), M16 VCCINT (power), M26 VCCINT (power), M28 VCCINT (power), M32 VCCINT (power), N9 VCCINT (power), N13 VCCINT (power), N15 VCCINT (power), N19 VCCINT (power), N25 VCCINT (power), N27 VCCINT (power), N29 VCCINT (power), P10 VCCAUX (power), P14 VCCINT (power), P16 VCCINT (power), P24 VCCINT (power), P26 VCCINT (power), P30 VCCAUX (power), R7 VCCINT (power), R13 VCCINT (power), R19 VCCINT (power), R21 VCCINT (power), R23 VCCINT (power), R25 VCCINT (power), R27 VCCINT (power), R33 VCCINT (power), T10 VCCINT (power), T16 VCCINT (power), T24 VCCINT (power), T26 VCCINT (power), T28 VCCINT (power), T30 VCCINT (power), U11 VCCAUX (power), U15 VCCINT (power), U17 VCCINT (power), U21 VCCINT (power), U23 VCCINT (power), U25 VCCINT (power), U31 VCCAUX (power), V8 VCCINT (power), V14 VCCINT (power), V16 VCCINT (power), V18 VCCINT (power), V20 VCCINT (power), V22 VCCINT (power), V28 VCCINT (power), W11 VCCINT (power), W15 VCCINT (power), W17 VCCINT (power), W19 VCCINT (power), W21 VCCAUX (power), W25 VCCINT (power), W31 VCCINT (power), Y8 VCCAUX (power), Y12 VCCAUX (power), Y14 VCCINT (power), Y26 VCCINT (power), Y28 VCCAUX (power), Y32 VCCAUX (power)
part K pins: A2 GND (power), A12 GND (power), A22 GND (power), A32 GND (power), A38 GND (power), AA2 GND (power), AA12 GND (power), AA22 GND (power), AA24 GND (power), AA26 GND (power), AA32 GND (power), AB9 GND (power), AB19 GND (power), AB21 GND (power), AB23 GND (power), AB25 GND (power), AB29 GND (power), AB39 GND (power), AC6 GND (power), AC16 GND (power), AC18 GND (power), AC24 GND (power), AC26 GND (power), AC36 GND (power), AD3 GND (power), AD13 GND (power), AD15 GND (power), AD19 GND (power), AD23 GND (power), AD33 GND (power), AE10 GND (power), AE14 GND (power), AE16 GND (power), AE20 GND (power), AE30 GND (power), AF7 GND (power), AF13 GND (power), AF15 GND (power), AF17 GND (power), AF25 GND (power), AF27 GND (power), AF37 GND (power), AG4 GND (power), AG12 GND (power), AG14 GND (power), AG24 GND (power), AG26 GND (power), AG34 GND (power), AH1 GND (power), AH11 GND (power), AH21 GND (power), AH25 GND (power), AH27 GND (power), AH31 GND (power), AJ8 GND (power), AJ14 GND (power), AJ18 GND (power), AJ26 GND (power), AJ28 GND (power), AJ38 GND (power), AK5 GND (power), AK13 GND (power), AK15 GND (power), AK25 GND (power), AK27 GND (power), AK35 GND (power), AL2 GND (power), AL12 GND (power), AL22 GND (power), AL32 GND (power), AM9 GND (power), AM19 GND (power), AM29 GND (power), AM39 GND (power), AN6 GND (power), AN16 GND (power), AN26 GND (power), AN36 GND (power), AP3 GND (power), AP13 GND (power), AP23 GND (power), AP33 GND (power), AR10 GND (power), AR20 GND (power), AR30 GND (power), AT7 GND (power), AT17 GND (power), AT27 GND (power), AT37 GND (power), AU4 GND (power), AU14 GND (power), AU24 GND (power), AU34 GND (power), AV1 GND (power), AV11 GND (power), AV21 GND (power), AV31 GND (power), AV39 GND (power), AW2 GND (power), AW8 GND (power), AW18 GND (power), AW28 GND (power), AW38 GND (power), B1 GND (power), B9 GND (power), B19 GND (power), B29 GND (power), B39 GND (power), C6 GND (power), C16 GND (power), C26 GND (power), C36 GND (power), D3 GND (power), D13 GND (power), D23 GND (power), D33 GND (power), E10 GND (power), E20 GND (power), E30 GND (power), F7 GND (power), F17 GND (power), F27 GND (power), F37 GND (power), G4 GND (power), G14 GND (power), G24 GND (power), G34 GND (power), H1 GND (power), H11 GND (power), H21 GND (power), H31 GND (power), J8 GND (power), J18 GND (power), J28 GND (power), J38 GND (power), K5 GND (power), K13 GND (power), K15 GND (power), K25 GND (power), K27 GND (power), K35 GND (power), L2 GND (power), L12 GND (power), L14 GND (power), L22 GND (power), L26 GND (power), L32 GND (power), M9 GND (power), M13 GND (power), M15 GND (power), M19 GND (power), M29 GND (power), M39 GND (power), N6 GND (power), N14 GND (power), N16 GND (power), N26 GND (power), N28 GND (power), N36 GND (power), P3 GND (power), P13 GND (power), P15 GND (power), P23 GND (power), P25 GND (power), P27 GND (power), P33 GND (power), R10 GND (power), R20 GND (power), R24 GND (power), R26 GND (power), R30 GND (power), T7 GND (power), T17 GND (power), T21 GND (power), T25 GND (power), T27 GND (power), T37 GND (power), U4 GND (power), U14 GND (power), U16 GND (power), U22 GND (power), U24 GND (power), U34 GND (power), V1 GND (power), V11 GND (power), V15 GND (power), V17 GND (power), V19 GND (power), V21 GND (power), V31 GND (power), W8 GND (power), W14 GND (power), W16 GND (power), W18 GND (power), W28 GND (power), W38 GND (power), Y5 GND (power), Y15 GND (power), Y25 GND (power), Y35 GND (power)
part A text: Bank 1; Bank 2
part B text: Bank 3; Bank 4
part C text: Bank 5; Bank 6
part D text: Bank 7; Bank 8
part E text: Bank 9; Bank 10
part F text: Bank 11; Bank 12
part G text: Bank 13; Bank 14
part H text: Bank 15; Bank 16

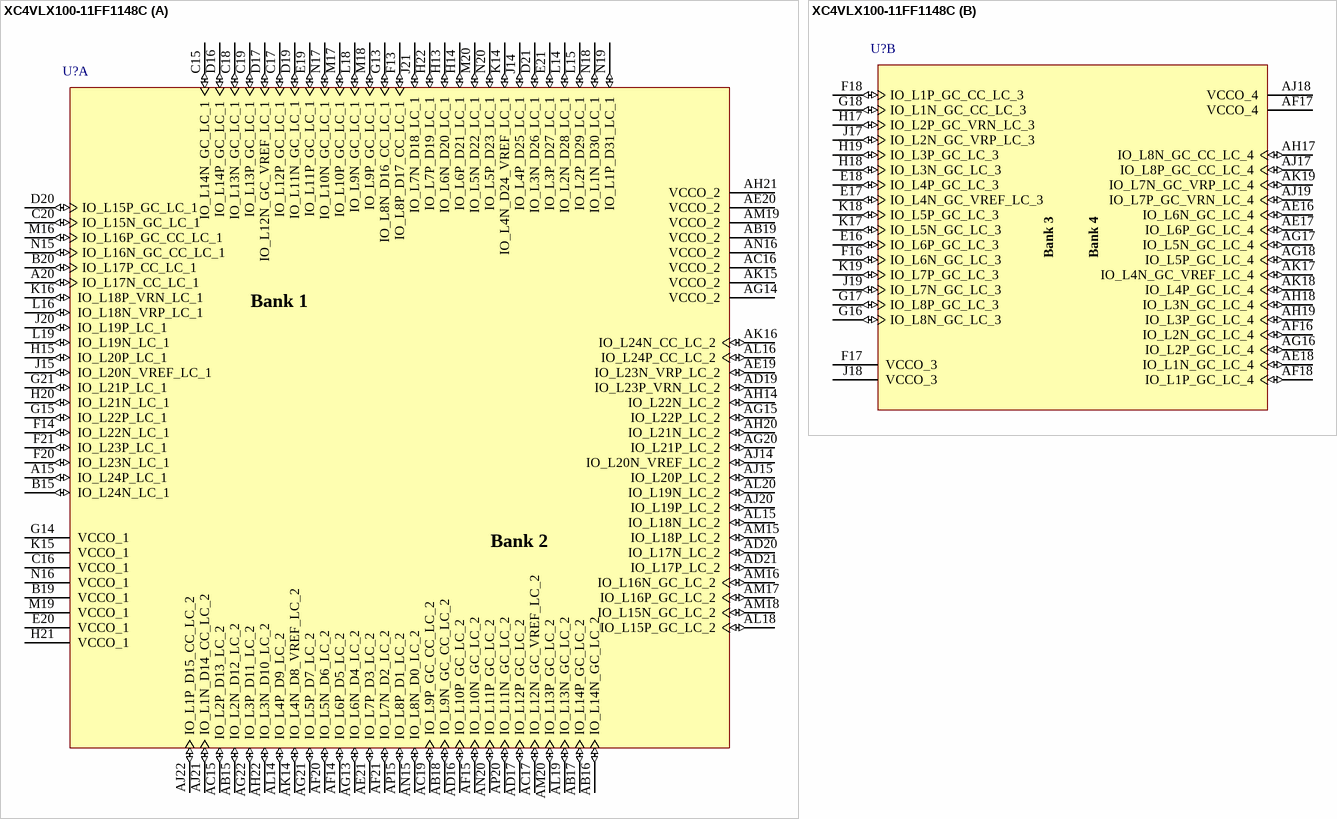
[diagram p196: symbol XC4VLX100-11FF1148C]

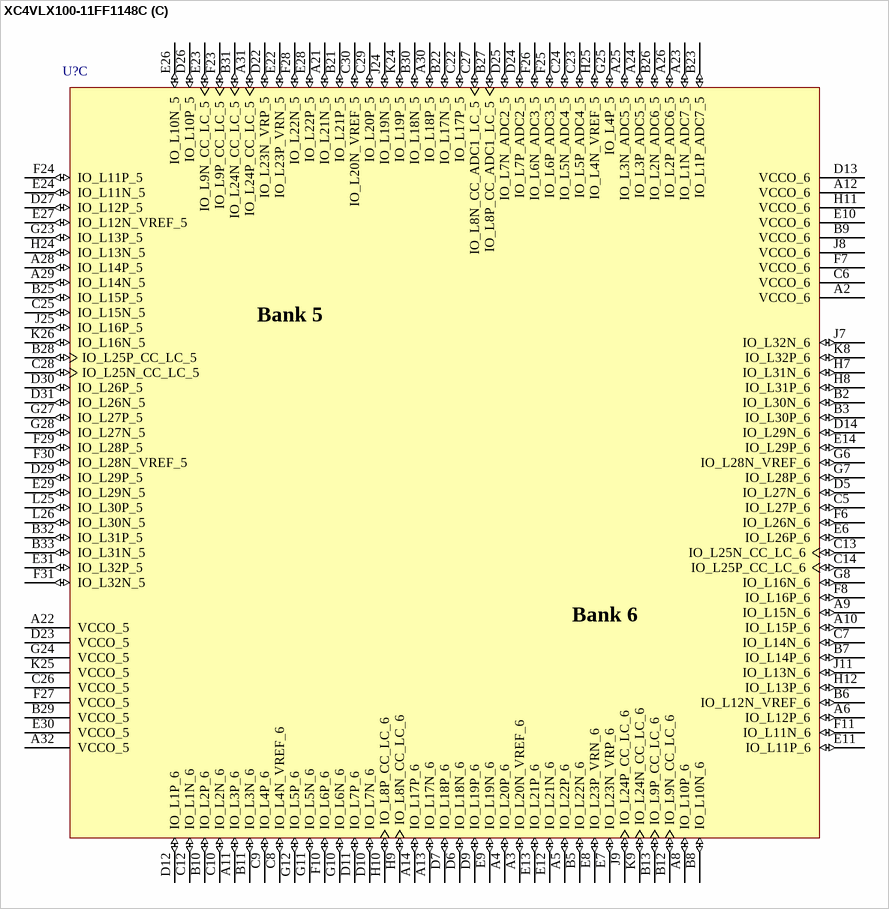
[diagram p197: symbol XC4VLX100-11FF1148C]

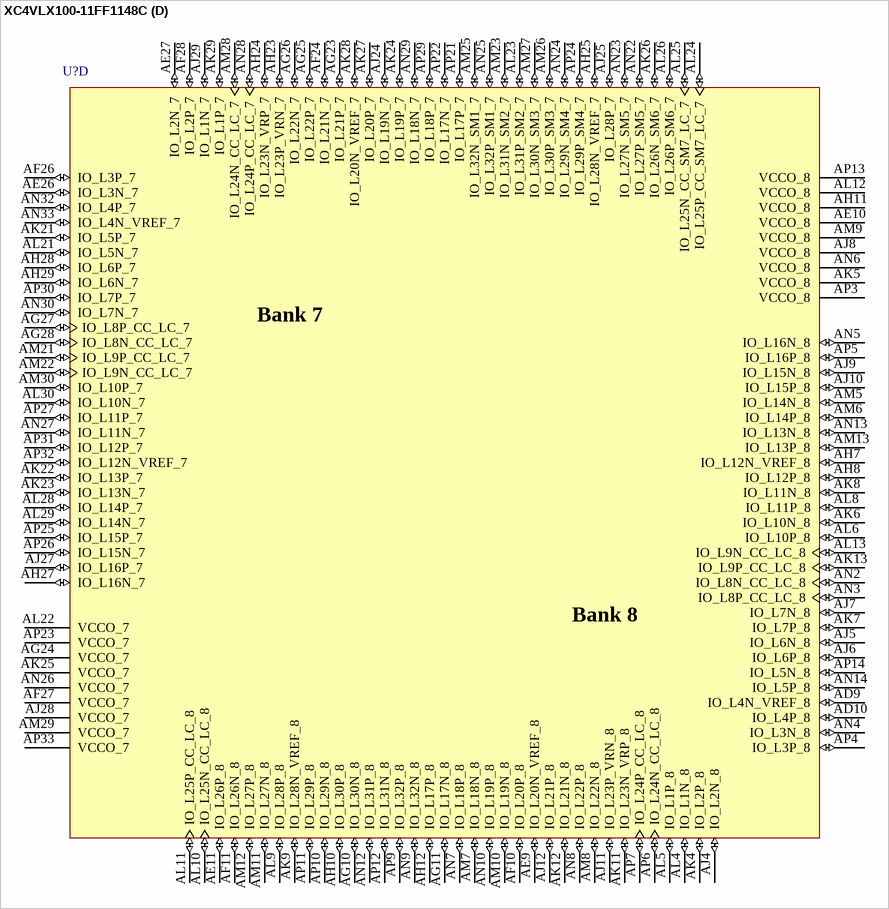
[diagram p198: symbol XC4VLX100-11FF1148C]

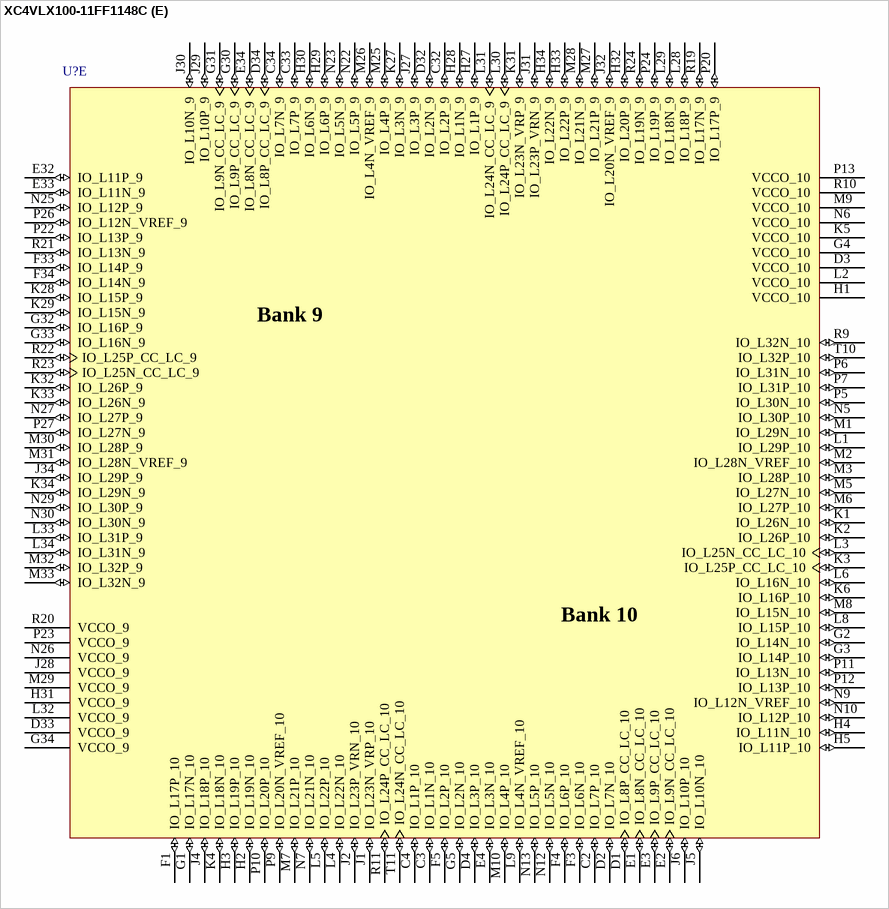
[diagram p199: symbol XC4VLX100-11FF1148C]

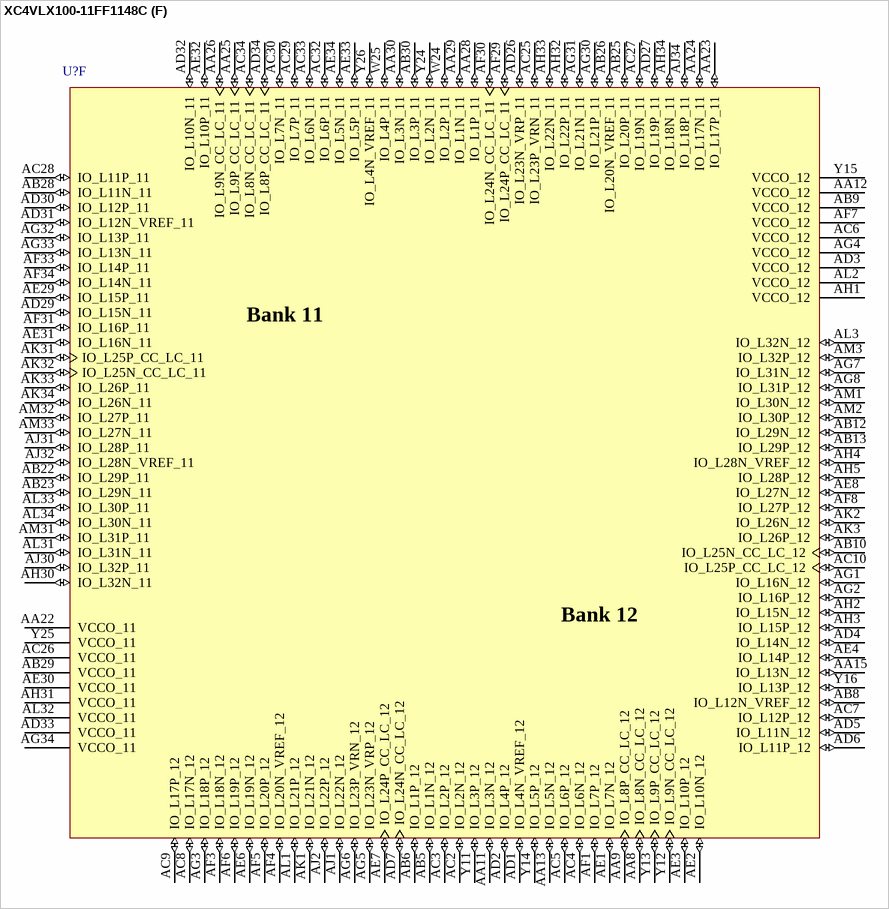
[diagram p200: symbol XC4VLX100-11FF1148C]

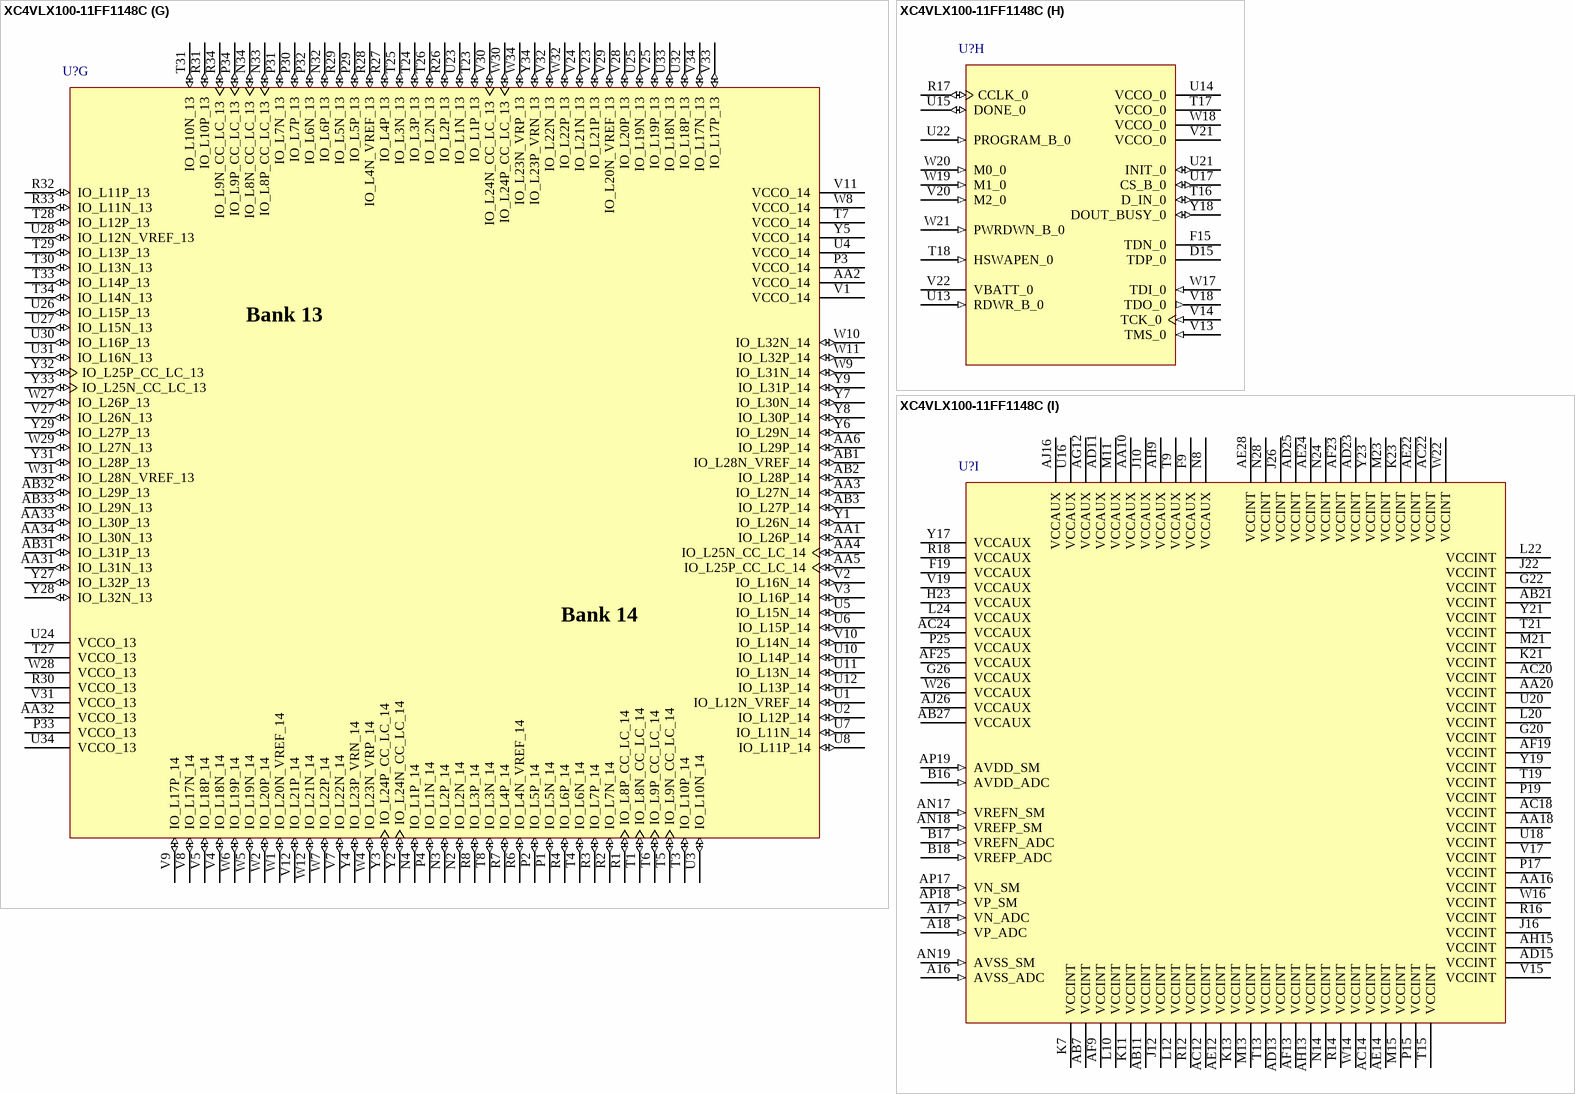
[diagram p201: symbol XC4VLX100-11FF1148C]

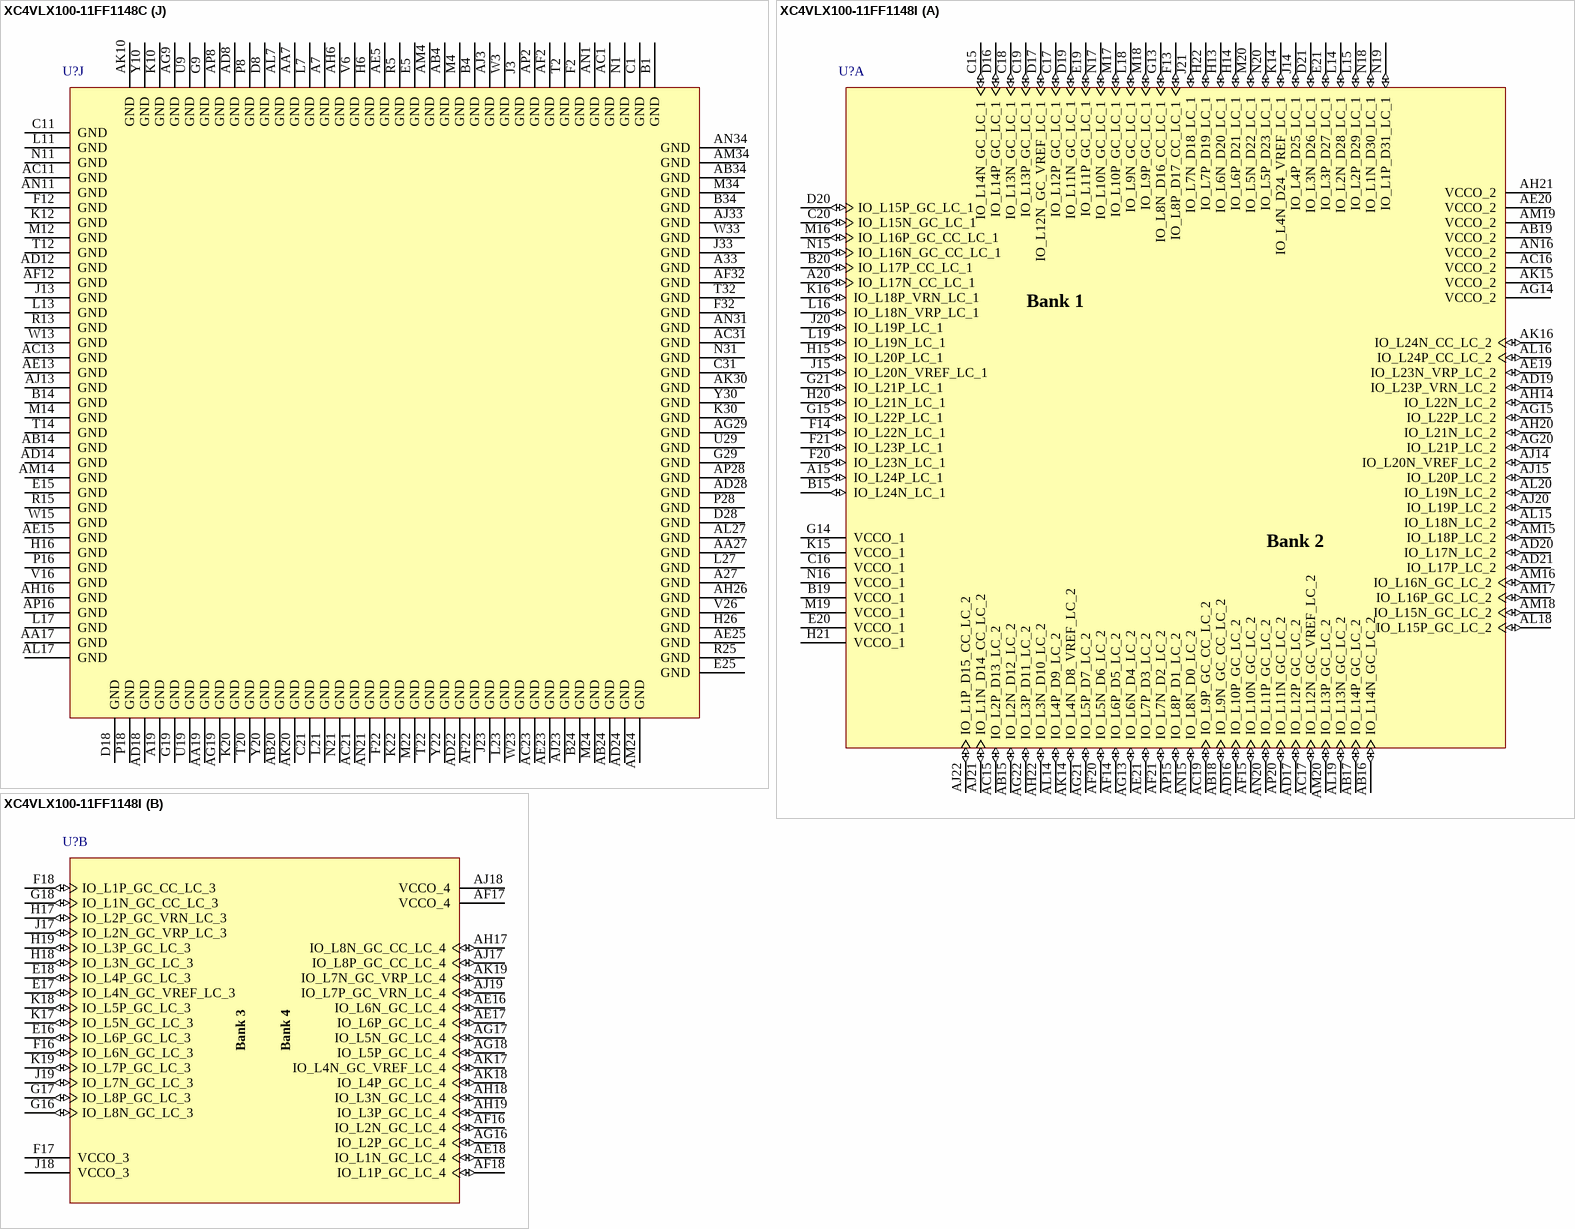
[diagram p202: symbols XC4VLX100-11FF1148C to XC4VLX100-11FF1148I]